# Altium footprint library microUSB.PcbLib: 8 footprints
Each footprint in its own frame and in the unit in brackets; x right, y up, seen from the top. Pads: shape width x height; smd on the part's side, far side on the other; paste and mask are expansions set on the pad; w line width, h text height; cw(c..) or ccw(c..) is an arc to the next point about the centre after c.
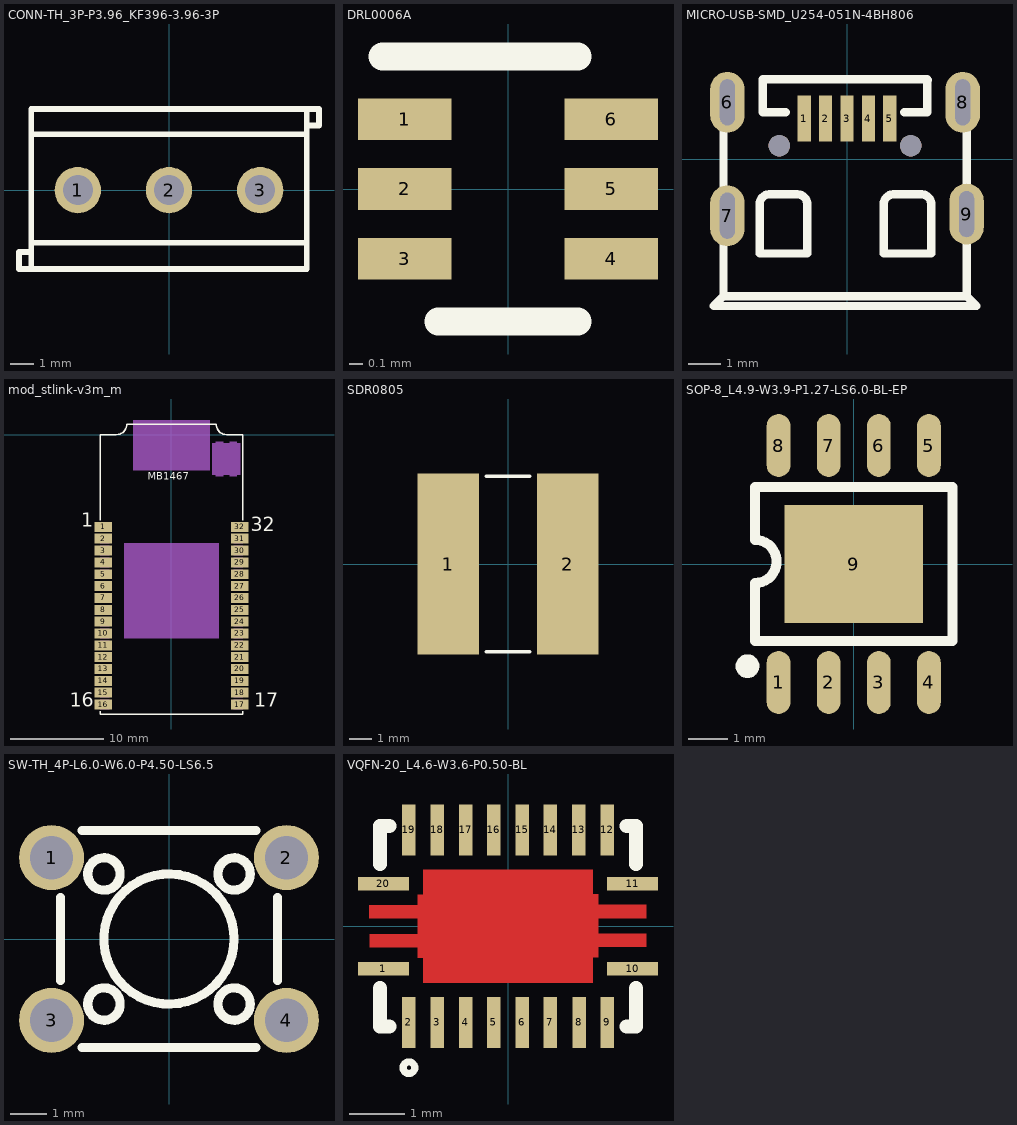
[diagram p0: the footprints below, top view; thin cyan lines are the x and y axes]

## CONN-TH_3P-P3.96_KF396-3.96-3P [mm]
pads (3):
  round 2 hole 1.3: 1(-3.937,0) 2(0,0) 3(3.937,0)
Top Overlay:
  lines w0.254: -5.95,-2.667 -6.477,-2.667 -6.477,-3.4 -5.95,-3.4 ; -5.95,-2.271 5.95,-2.271 ; -5.95,2.413 5.95,2.413 ; 5.95,2.794 6.477,2.794 6.477,3.5 5.95,3.5 ; -5.95,-3.4 -5.95,3.5 5.95,3.5 ; -5.95,-3.4 5.95,-3.4 5.95,3.5

## DRL0006A [mm]
pads (6):
  rect 0.67x0.3 smd paste+0 mask+0: 1(-0.74,0.5) 2(-0.74,0) 3(-0.74,-0.5) 4(0.74,-0.5) 5(0.74,0) 6(0.74,0.5)
Top Overlay:
  lines w0.2: -0.9,0.95 0.5,0.95 ; -0.5,-0.95 0.5,-0.95
3D body: height 0.25, standoff 0, extent 0,0 0.254,0.254

## MICRO-USB-SMD_U254-051N-4BH806 [mm]
pads (11):
  rect 0.4x1.4 smd: 1(-1.3,1.225) 2(-0.65,1.225) 3(0,1.225) 4(0.65,1.225) 5(1.3,1.225)
  oval 1.05x1.849 hole 0.45 slot 1.4 at 90 deg: 6(-3.64,1.725) 7(-3.64,-1.725) 8(3.52,1.725) 9(3.64,-1.675)
  round 0.65 hole 0.65 unplated: ""(-2.06,0.405) ""(1.94,0.405)
Top Overlay:
  lines w0.254: -3.76,2.425 -3.76,-4.175 ; -1.86,1.425 -2.56,1.425 -2.56,2.425 2.44,2.425 ; -1.56,-1.075 -2.36,-1.075 ccw(c-2.36,-1.375) -2.66,-1.375 -2.66,-2.875 -1.26,-2.875 ; -1.51,-1.075 cw(c-1.51,-1.375) -1.21,-1.375 -1.21,-2.875 ; 1.74,1.425 2.44,1.425 2.44,2.425 ; 2.215,-1.075 1.415,-1.075 ccw(c1.415,-1.375) 1.115,-1.375 1.115,-2.875 2.515,-2.875 ; 2.265,-1.075 cw(c2.265,-1.375) 2.565,-1.375 2.565,-2.875 ; 2.465,2.4 cw(c2.465,2.425) 2.44,2.425 ; 3.64,2.425 3.64,-4.175 ; -3.76,-4.175 3.64,-4.175 ; -3.76,-4.175 -4.06,-4.475 3.94,-4.475 3.64,-4.175

## mod_stlink-v3m_m [mil]
pads (32):
  rect 74.8x42.13 smd paste+0 mask+1: 1(-288.19,-390) 2(-288.19,-440) 3(-288.19,-490) 4(-288.19,-540) 5(-288.19,-590) 6(-288.19,-640) 7(-288.19,-690) 8(-288.19,-740) 9(-288.19,-790) 10(-288.19,-840) 11(-288.19,-890) 12(-288.19,-940) 13(-288.19,-990) 14(-288.19,-1040) 15(-288.19,-1090) 16(-288.19,-1140) 17(288.19,-1140) 18(288.19,-1090) 19(288.19,-1040) 20(288.19,-990) 21(288.19,-940) 22(288.19,-890) 23(288.19,-840) 24(288.19,-790) 25(288.19,-740) 26(288.19,-690) 27(288.19,-640) 28(288.19,-590) 29(288.19,-540) 30(288.19,-490) 31(288.19,-440) 32(288.19,-390)
Top Overlay:
  lines w6: -300,-1167.5 -300,-1180 300,-1180 300,-1167.5 ; -300,-362.5 -300,0 -232.28,0 ccw(c-232.28,43.31) -188.97,43.31 ; -188.98,43.31 188.98,43.31 ; 188.97,43.31 ccw(c232.28,43.31) 232.28,0 300,0 300,-362.5
  text "MB1467" at -100,-190 h31
  text "32" at 335,-409 h59
  text "17" at 350,-1150 h59
  text "16" at -430,-1150 h59
  text "1" at -380,-390 h59
Mechanical 13:
  text "Comment" at 0,0 h75
  text "RefDes2" at 0,0 h31
Mechanical 15:
  drawing of 292 lines, arcs and shapes, not listed
  text "70.87 MIL" at 0,0 h50
  text "66.93 MIL" at 0,0 h50
Multi-Layer:
  text "Copyright (C) 2018 Accelerated Designs. All rights reserved" at 0,0 h1
3D body: height 10, standoff 0, extent 0,0 10,10

## SDR0805 [mil]
pads (2):
  rect 106.5x315 smd: 1(-104.25,0) 2(104.25,0)
Top Overlay:
  lines w6: -37.9,-153.5 37.9,-153.5 ; -37.9,153.5 37.9,153.5
3D body "SDR0805.stp": height 221, standoff 0, extent -165.5,-153.5 165.5,153.5

## SOP-8_L4.9-W3.9-P1.27-LS6.0-BL-EP [mm]
pads (9):
  oval 0.6x1.598 smd: 1(-1.905,-3) 2(-0.635,-3) 3(0.635,-3) 4(1.905,-3) 5(1.905,3) 6(0.635,3) 7(-0.635,3) 8(-1.905,3)
  rect 3.5x3 smd: 9(0,0)
Top Overlay:
  lines w0.254: -2.5,-1.95 -2.5,-0.483 ccw(c-2.5,0.064) -2.5,0.61 -2.5,1.95 2.5,1.95 2.5,-1.95 -2.5,-1.95
  lines w0.3: -2.692,-2.438 ccw(c-2.691,-2.588) -2.69,-2.438

## SW-TH_4P-L6.0-W6.0-P4.50-LS6.5 [mm]
pads (4):
  round 1.8 hole 1.2: 1(-3.25,2.25) 2(3.25,2.25) 3(-3.25,-2.25) 4(3.25,-2.25)
Top Overlay:
  circle w0.254: c1.8,-1.8 r0.447
  circle w0.254: c-1.8,-1.8 r0.447
  circle w0.254: c-1.8,1.8 r0.447
  circle w0.254: c1.8,1.8 r0.447
  circle w0.254: c0,0 r1.8
  lines w0.254: -3,-1.147 -3,1.147 ; -2.404,-3 2.404,-3 ; -2.404,3 2.404,3 ; 3,-1.147 3,1.147

## VQFN-20_L4.6-W3.6-P0.50-BL [mil]
pads (21):
  rect 36x9.6 smd: 1(-88,-30) 10(88,-30) 11(88,30) 20(-88,30)
  rect 9.6x36 smd: 2(-70,-68) 3(-50,-68) 4(-30,-68) 5(-10,-68) 6(10,-68) 7(30,-68) 8(50.4,-68) 9(70,-68) 12(70,68) 13(50,68) 14(30,68) 15(10,68) 16(-10,68) 17(-30,68) 18(-50,68) 19(-70,68)
  round 0 smd: 21(-0.08,0.02)
Top Layer:
  region: -63.9,5.63 -97.91,5.75 -97.91,14.8 -63.9,14.96 -63.78,22.24 -60,22.28 -59.96,40 60,40 59.88,22.48 63.74,22.48 63.86,15 97.76,15 97.76,5.79 63.74,5.79 63.86,-5.39 97.76,-5.39 97.76,-14.61 63.74,-14.61 63.86,-22.09 60,-22.09 60,-39.92 -60,-40 -60,-22.32 -63.86,-22.32 -63.82,-14.72 -97.76,-14.72 -97.72,-5.63 -63.78,-5.67 -63.82,5.71
Top Overlay:
  circle w5.08: c-70,-100 r4.1
  lines w10: -90.55,-43.9 -90.55,-70.87 -83.9,-70.87 ; -90.55,43.9 -90.55,70.87 -83.9,70.87 ; 83.9,-70.87 90.55,-70.87 90.55,-43.9 ; 83.9,70.87 90.55,70.87 90.55,43.9
Top Paste:
  region: -63.9,5.63 -97.91,5.75 -97.91,14.8 -63.9,14.96 -63.78,22.24 -60,22.28 -59.96,40 60,40 59.88,22.48 63.74,22.48 63.86,15 97.76,15 97.76,5.79 63.74,5.79 63.86,-5.39 97.76,-5.39 97.76,-14.61 63.74,-14.61 63.86,-22.09 60,-22.09 60,-39.92 -60,-40 -60,-22.32 -63.86,-22.32 -63.82,-14.72 -97.76,-14.72 -97.72,-5.63 -63.78,-5.67 -63.82,5.71
Top Solder:
  region: -63.9,5.63 -97.91,5.75 -97.91,14.8 -63.9,14.96 -63.78,22.24 -60,22.28 -59.96,40 60,40 59.88,22.48 63.74,22.48 63.86,15 97.76,15 97.76,5.79 63.74,5.79 63.86,-5.39 97.76,-5.39 97.76,-14.61 63.74,-14.61 63.86,-22.09 60,-22.09 60,-39.92 -60,-40 -60,-22.32 -63.86,-22.32 -63.82,-14.72 -97.76,-14.72 -97.72,-5.63 -63.78,-5.67 -63.82,5.71